# EAGLE library part SPDT-6PIN (library slider _switch)
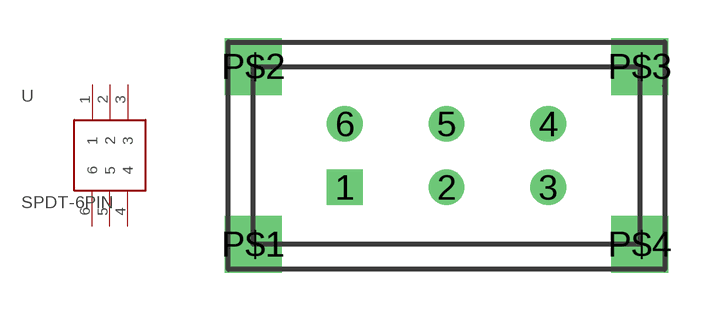
[diagram p0: symbol with the pads of SPDT-6PIN; footprint SPDT-6PIN]

Designator prefix -

## SPDT-6PIN  [SPDT-6PIN]
1  1
2  2
3  3
4  4
5  5
6  6

## Footprint SPDT-6PIN (pad centres in mm)
drill 0.9 square: 1 0,0
drill 0.9: 2 4,0; 3 8,0; 4 8,2.5; 5 4,2.5; 6 0,2.5
drill 1.5 square: P$1 -3.6,-2.25; P$2 -3.6,4.75; P$3 11.6,4.75; P$4 11.6,-2.25